# Altium footprint library Potentiometer_20T.PcbLib: 1 footprints
Each footprint in its own frame and in the unit in brackets; x right, y up, seen from the top. Pads: shape width x height; smd on the part's side, far side on the other; paste and mask are expansions set on the pad; w line width, h text height; cw(c..) or ccw(c..) is an arc to the next point about the centre after c.
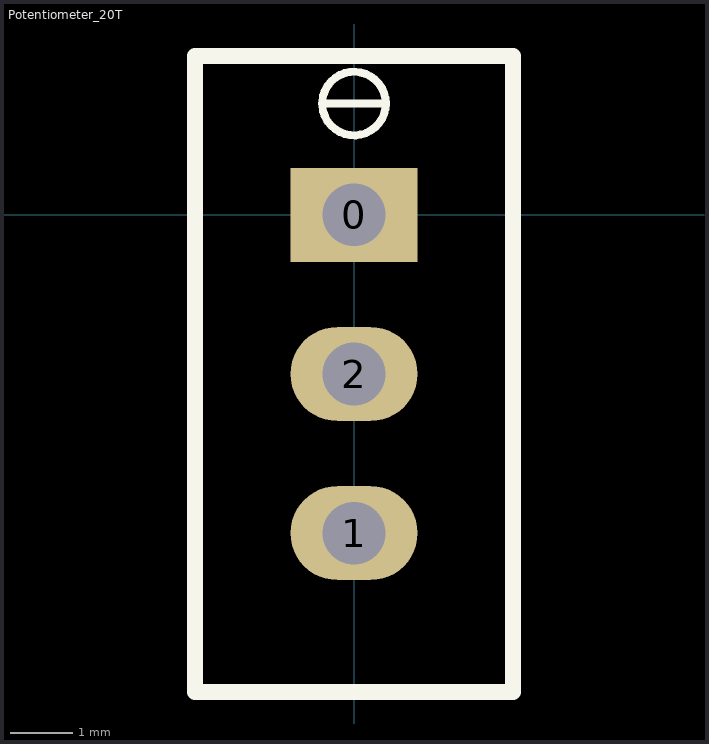
[diagram p0: the footprint, top view; thin cyan lines are the x and y axes]

## Potentiometer_20T [mm]
pads (3):
  rect 2.032x1.5 hole 1: 0(0,0)
  oval 2.032x1.5 hole 1: 1(0,-5.08) 2(0,-2.54)
Top Overlay:
  circle w0.127: c0,1.778 r0.508
  lines w0.127: -0.508,1.778 0.508,1.778
  lines w0.254: -2.54,-7.62 -2.54,2.54 0,2.54 2.54,2.54 2.54,-7.62 -2.54,-7.62